# EAGLE library part ARDUINO_NANO (library CUCombatBots)
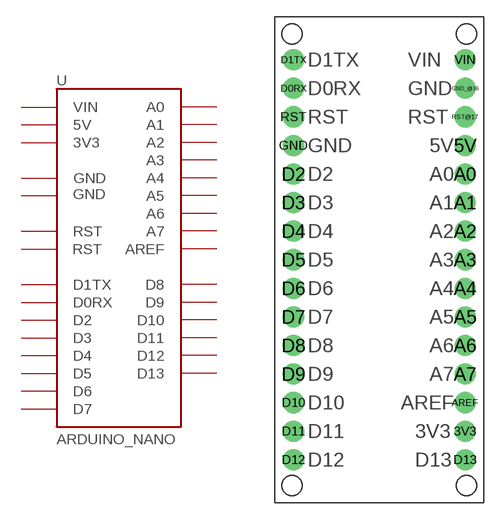
[diagram p0: symbol with the pads of ARDUINO_NANO; footprint ARDUINO_NANO]

Designator prefix U

## ARDUINO_NANO  [ARDUINO_NANO]
3V3  3V3
5V  5V
A0  A0
A1  A1
A2  A2
A3  A3
A4  A4
A5  A5
A6  A6
A7  A7
AREF  AREF
D0RX  D0RX
D1TX  D1TX
D2  D2
D3  D3
D4  D4
D5  D5
D6  D6
D7  D7
D8  D8
D9  D9
D10  D10
D11  D11
D12  D12
D13  D13
GND  GND
GND_@16  GND
RST  RST
RST@17  RST
VIN  VIN

## Footprint ARDUINO_NANO (pad centres in mm)
drill 1.016 pad 1.88: 3V3 7.62,-15.24; 5V 7.62,10.16; A0 7.62,7.62; A1 7.62,5.08; A2 7.62,2.54; A3 7.62,0; A4 7.62,-2.54; A5 7.62,-5.08; A6 7.62,-7.62; A7 7.62,-10.16; AREF 7.62,-12.7; D0RX -7.62,15.24; D1TX -7.62,17.78; D2 -7.62,7.62; D3 -7.62,5.08; D4 -7.62,2.54; D5 -7.62,0; D6 -7.62,-2.54; D7 -7.62,-5.08; D8 -7.62,-7.62; D9 -7.62,-10.16; D10 -7.62,-12.7; D11 -7.62,-15.24; D12 -7.62,-17.78; D13 7.62,-17.78; GND -7.62,10.16; GND_@16 7.62,15.24; RST -7.62,12.7; RST@17 7.62,12.7; VIN 7.62,17.78